# Altium schematic symbol library PLD2-12.Schlib: 1 symbol
Pins are listed as number, name and electrical type; pins without a type are passive.

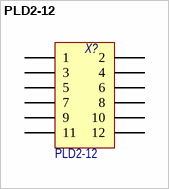
[diagram p0: symbol PLD2-12]

## PLD2-12
designator X?, comment Наименование: PLD2-12  (hidden comment: Header 2X6)
Header, 12-Pin, Dual row; Потребление, Вт: 0,0; Назначение: Header, 12-Pin, Dual row
footprint PLD2-12
footprint PLD2-12R
footprint SD87340-12
pins: 1, 2, 3, 4, 5, 6, 7, 8, 9, 10, 11, 12